# Altium footprint library cap.PcbLib: 1 footprints
Each footprint in its own frame and in the unit in brackets; x right, y up, seen from the top. Pads: shape width x height; smd on the part's side, far side on the other; paste and mask are expansions set on the pad; w line width, h text height; cw(c..) or ccw(c..) is an arc to the next point about the centre after c.
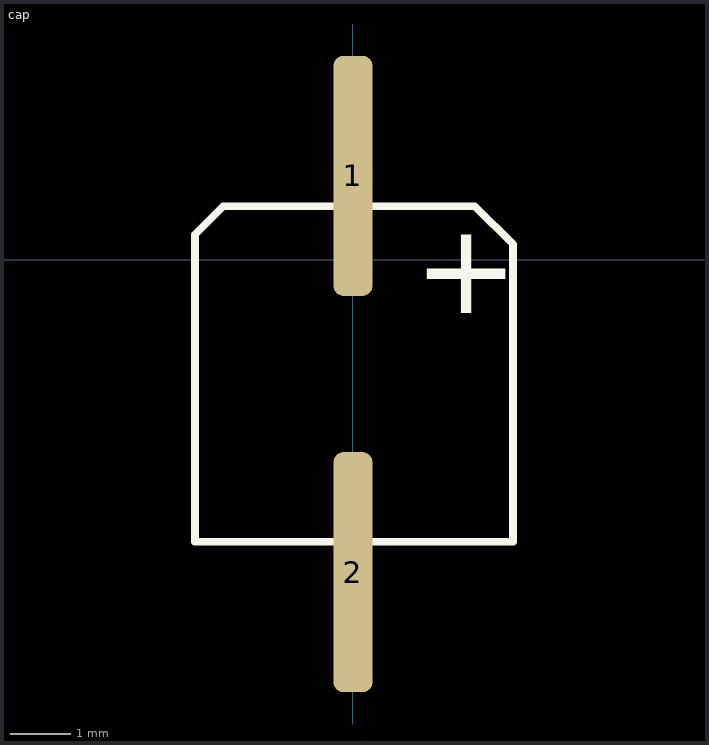
[diagram p0: the footprint, top view; thin cyan lines are the x and y axes]

## cap [mm]
pads (2):
  rrect50% 0.65x4 smd: 1(0,1.397) 2(0,-5.207)
Top Overlay:
  lines w0.127: -2.633,-4.699 -2.633,0.415 -2.159,0.889 2.032,0.889 2.667,0.254 2.667,-4.699 -2.633,-4.699
  text "+" at 1.016,-0.889 h1.52